# Altium schematic symbol library res.SchLib: 1 symbol
Pins are listed as number, name and electrical type; pins without a type are passive.

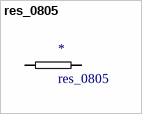
[diagram p0: symbol res_0805]

## res_0805
designator *
footprint res_0805
pins: 0, 1